# Altium footprint library Integrated Preamp PCB Lib.PcbLib: 3 footprints
Each footprint in its own frame and in the unit in brackets; x right, y up, seen from the top. Pads: shape width x height; smd on the part's side, far side on the other; paste and mask are expansions set on the pad; w line width, h text height; cw(c..) or ccw(c..) is an arc to the next point about the centre after c.
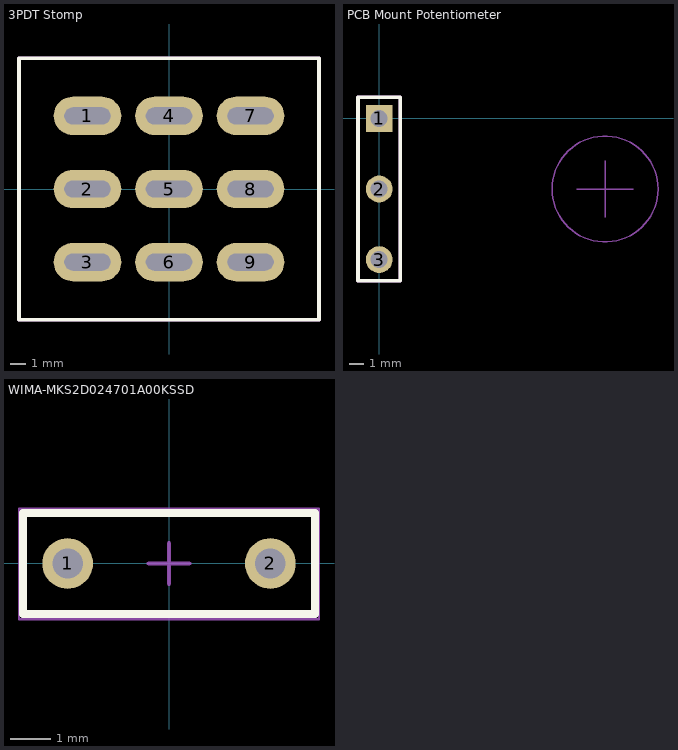
[diagram p0: the footprints below, top view; thin cyan lines are the x and y axes]

## 3PDT Stomp [mm]
pads (9):
  oval 4.4x2.5 hole 1.1 slot 3 at 0 deg: 1(-5.3,4.75) 2(-5.3,0) 3(-5.3,-4.75) 4(0,4.75) 5(0,0) 6(0,-4.75) 7(5.3,4.75) 8(5.3,0) 9(5.3,-4.75)
Top Overlay:
  lines w0.254: -9.75,-8.5 9.75,-8.5 9.75,8.5 -9.75,8.5 -9.75,-8.5
Assembly Drawing:
  lines w0.254: -9.75,-8.5 9.75,-8.5 9.75,8.5 -9.75,8.5 -9.75,-8.5
  text "'.Designator'" at -0.8,-0.4 h1.2
3D body "SF17020F-0302-21R-L.step": height 38.25, standoff -2.95, extent -9.8,-8.5 9.8,8.5

## PCB Mount Potentiometer [mm]
pads (3):
  rect 1.9x1.9 hole 1.2: 1(0,0)
  round 1.9 hole 1.2: 2(0,-5) 3(0,-10)
Top Overlay:
  lines w0.254: -1.5,-11.5 1.5,-11.5 1.5,1.5 -1.5,1.5 -1.5,-11.5
Assembly Drawing:
  lines w0.254: -1.5,-11.5 1.5,-11.5 1.5,1.5 -1.5,1.5 -1.5,-11.5
  text "'.Designator'" at -0.8,-5.65 h1.2
Enclosure Drill Template:
  circle w0.1: c16,-5 r3.75
  lines w0.1: 14,-5 18,-5 16,-5 ; 16,-7 16,-3
3D body "RV16AF-41.step": height 25.9, standoff -5, extent -0.25,-13.5 24.5,3.5

## WIMA-MKS2D024701A00KSSD [mm] "THD, 2-Leads, Body 7.2x2.5mm, Pitch 5mm"
height 6.5
pads (2):
  round 1.25 hole 0.75: 1(-2.5,0) 2(2.5,0)
Top Overlay:
  lines w0.2: -3.6,-1.25 -3.6,1.25 3.6,1.25 3.6,-1.25 -3.6,-1.25
Mechanical 13:
  lines w0.1: -3.6,-1.25 3.6,-1.25 3.6,1.25 -3.6,1.25 -3.6,-1.25
Mechanical 15:
  lines w0.05: -3.7,-1.375 -3.7,1.35 3.7,1.35 3.7,-1.375 -3.7,-1.375
  lines w0.1: -0.5,0 0.5,0 ; 0,-0.5 0,0.5
3D body: height 6.5, standoff 0, extent -3.599,-1.25 3.599,1.25